# Altium schematic symbol library kmilo17pet-TI_MSP430.SchLib: 1463 symbols (part 114 of 130)
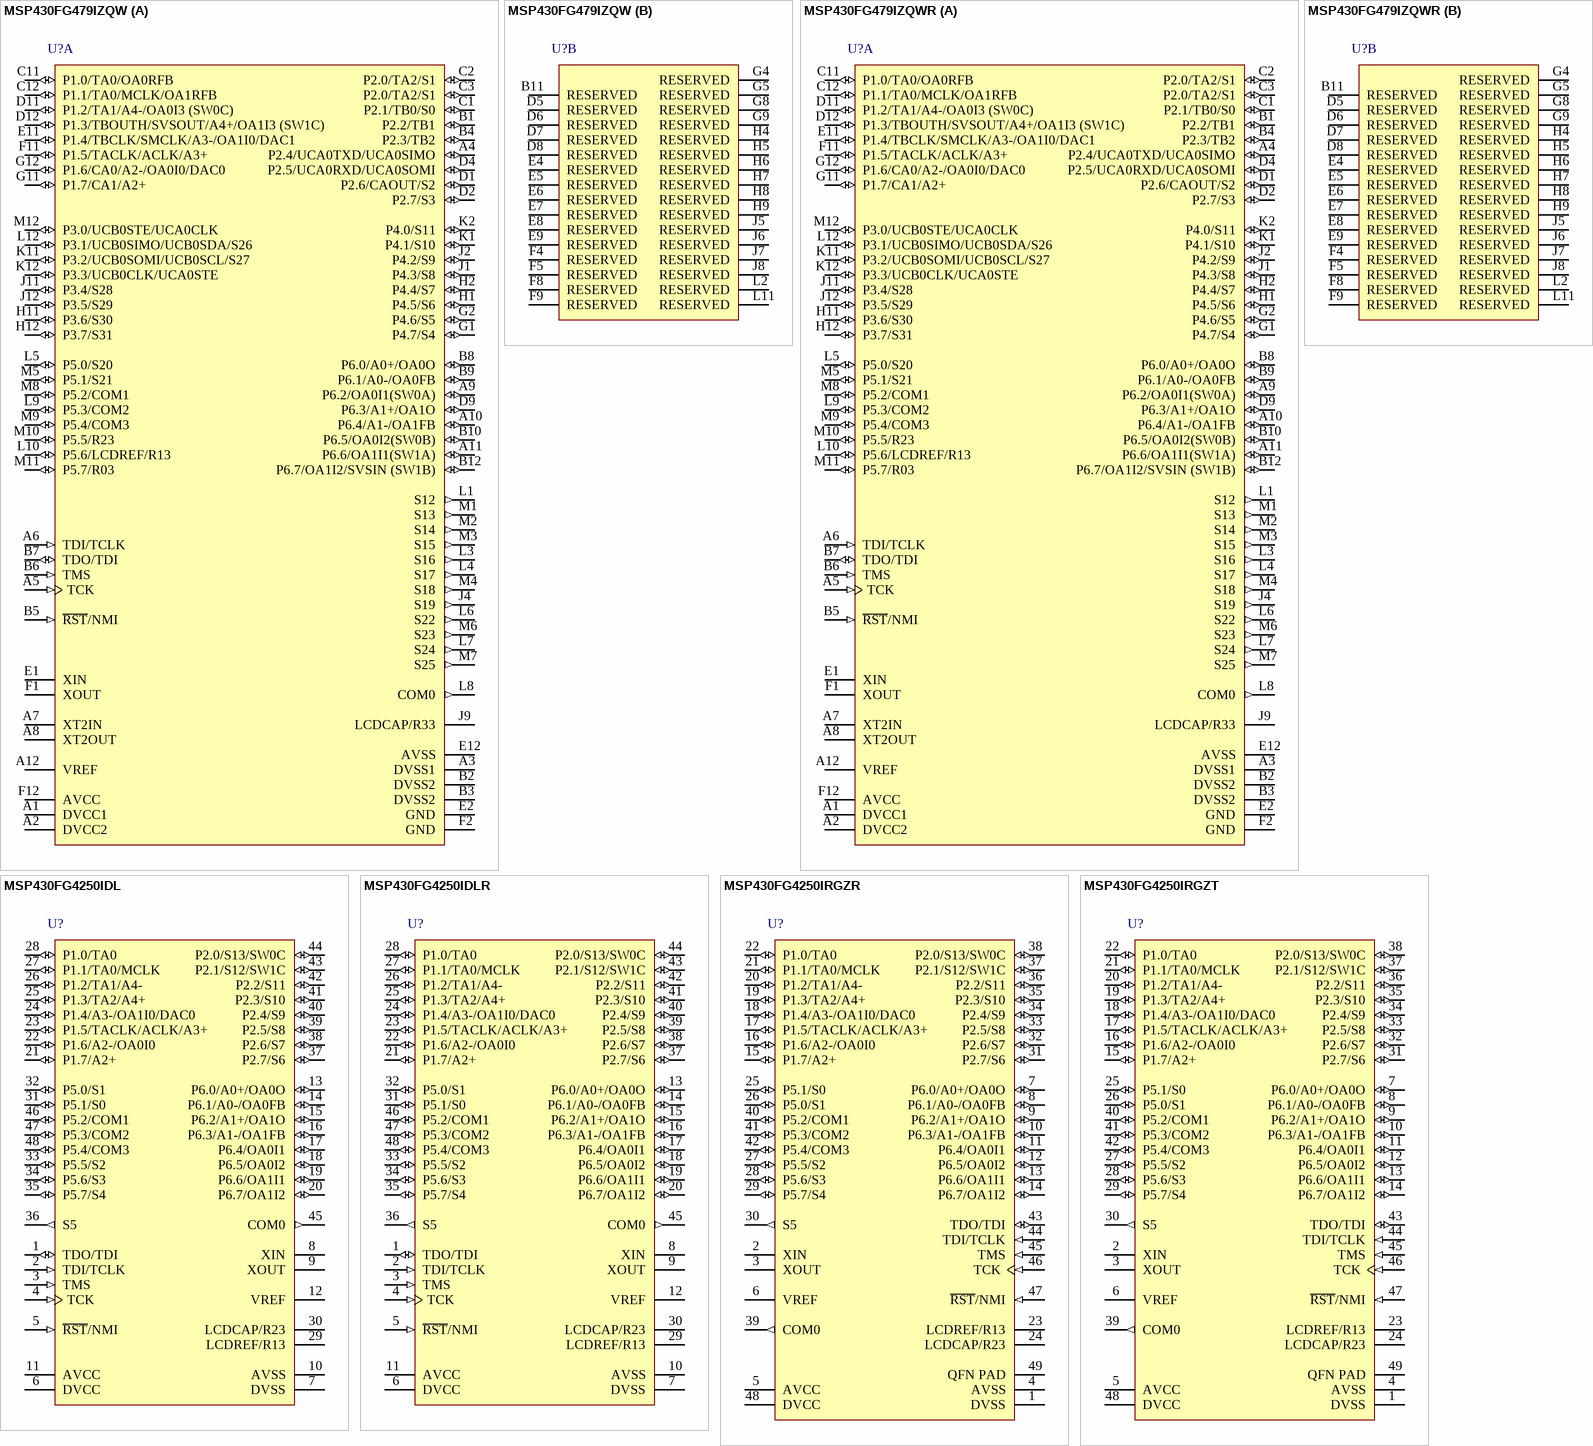
[diagram p392: symbols MSP430FG479IZQW to MSP430FG4250IRGZT]

## MSP430FG4250IRGZT
designator U?
8 MHz Mixed Signal Microcontroller with 16 KB Flash, 256 B SRAM and 32 GPIOs, -40 to 85 degC, 48-pin QFN (RGZ), Green (RoHS & no Sb/Br); Manufacturer: Texas Instruments; PartNumber: MSP430FG4250IRGZT; ADC: 16-bit Sigma Delta; DAC: 1; Flash(KB): 16; Frequency(MHz): 8; GPIO: 32; LCD Segments: 56; SRAM(B): 256; SubFamily: 4 Series with LCD; Temp Sensor: Yes; DatasheetVersion: SLAS556A; PackageVersion: 4204101/F; PackageReference: RGZ48-5150X5150TP; PackageDescription: 48-Pin Plastic Flat Pack, Body 7 x 7 mm, Pitch 0.5 mm; Supplier 1: Digi-Key; Supplier Part Number 1: 296-22057-2-ND; Supplier 2: Digi-Key; Supplier Part Number 2: 296-22057-1-ND; Supplier 3: Newark; Supplier Part Number 3: 54M7243; Supplier 4: Mouser; Supplier Part Number 4: 595-430FG4250IRGZR; Eco-Plan: Green (RoHS & no Sb/Br); Mounting Technology: Surface Mount; Code_JEDEC: MO-220; ComponentLink1Description: Manufacturer URL; ComponentLink1URL: http://www.ti.com/; ComponentLink2Description: Datasheet; ComponentLink2URL: http://www.ti.com/general/docs/lit/getliterature.tsp?genericPartNumber=MSP430FG4250&fileType=pdf; ComponentLink3Description: Package Specification; ComponentLink3URL: http://www.ti.com/lit/ml/mpqf123e/mpqf123e.pdf
footprint TI-RGZ48-5150X5150TP_N (QFN, 48-Leads, Body 7x7mm, Pitch 0.5mm, Thermal Pad 5.15X5.15mm, IPC Medium Density)
pins: 1 DVSS (power) "Digital supply voltage, negative terminal", 2 XIN "Input terminal of crystal oscillator XT1", 3 XOUT "Output terminal of crystal oscillator XT1", 4 AVSS (power) "Analog supply voltage, negative terminal", 5 AVCC (power) "Analog supply voltage, positive terminal", 6 VREF "Analog reference voltage", 7 P6.0/A0+/OA0O (io), 8 P6.1/A0-/OA0FB (io), 9 P6.2/A1+/OA1O (io), 10 P6.3/A1-/OA1FB (io), 11 P6.4/OA0I1 (io), 12 P6.5/OA0I2 (io), 13 P6.6/OA1I1 (io), 14 P6.7/OA1I2 (io), 15 P1.7/A2+ (io), 16 P1.6/A2-/OA0I0 (io), 17 P1.5/TACLK/ACLK/A3+ (io), 18 P1.4/A3-/OA1I0/DAC0 (io), 19 P1.3/TA2/A4+ (io), 20 P1.2/TA1/A4- (io), 21 P1.1/TA0/MCLK (io), 22 P1.0/TA0 (io), 23 LCDREF/R13, 24 LCDCAP/R23, 25 P5.1/S0 (io), 26 P5.0/S1 (io), 27 P5.5/S2 (io), 28 P5.6/S3 (io), 29 P5.7/S4 (io), 30 S5 (out) "LCD segment output 5", 31 P2.7/S6 (io), 32 P2.6/S7 (io), 33 P2.5/S8 (io), 34 P2.4/S9 (io), 35 P2.3/S10 (io), 36 P2.2/S11 (io), 37 P2.1/S12/SW1C (io), 38 P2.0/S13/SW0C (io), 39 COM0 (out) "Common output. COM0-COM3 are used for LCD backplanes.", 40 P5.2/COM1 (io), 41 P5.3/COM2 (io), 42 P5.4/COM3 (io), 43 TDO/TDI (io), 44 TDI/TCLK (in), 45 TMS (in) "Test mode select. TMS is used as an input port for device programming and test.", 46 TCK (in) "Test clock. TCK is the clock input port for device programming and test.", 47 ~{RST}/NMI (in), 48 DVCC (power) "Digital supply voltage, positive terminal", 49 QFN PAD (power) "QFN package pad connection to DVSS is recommended."

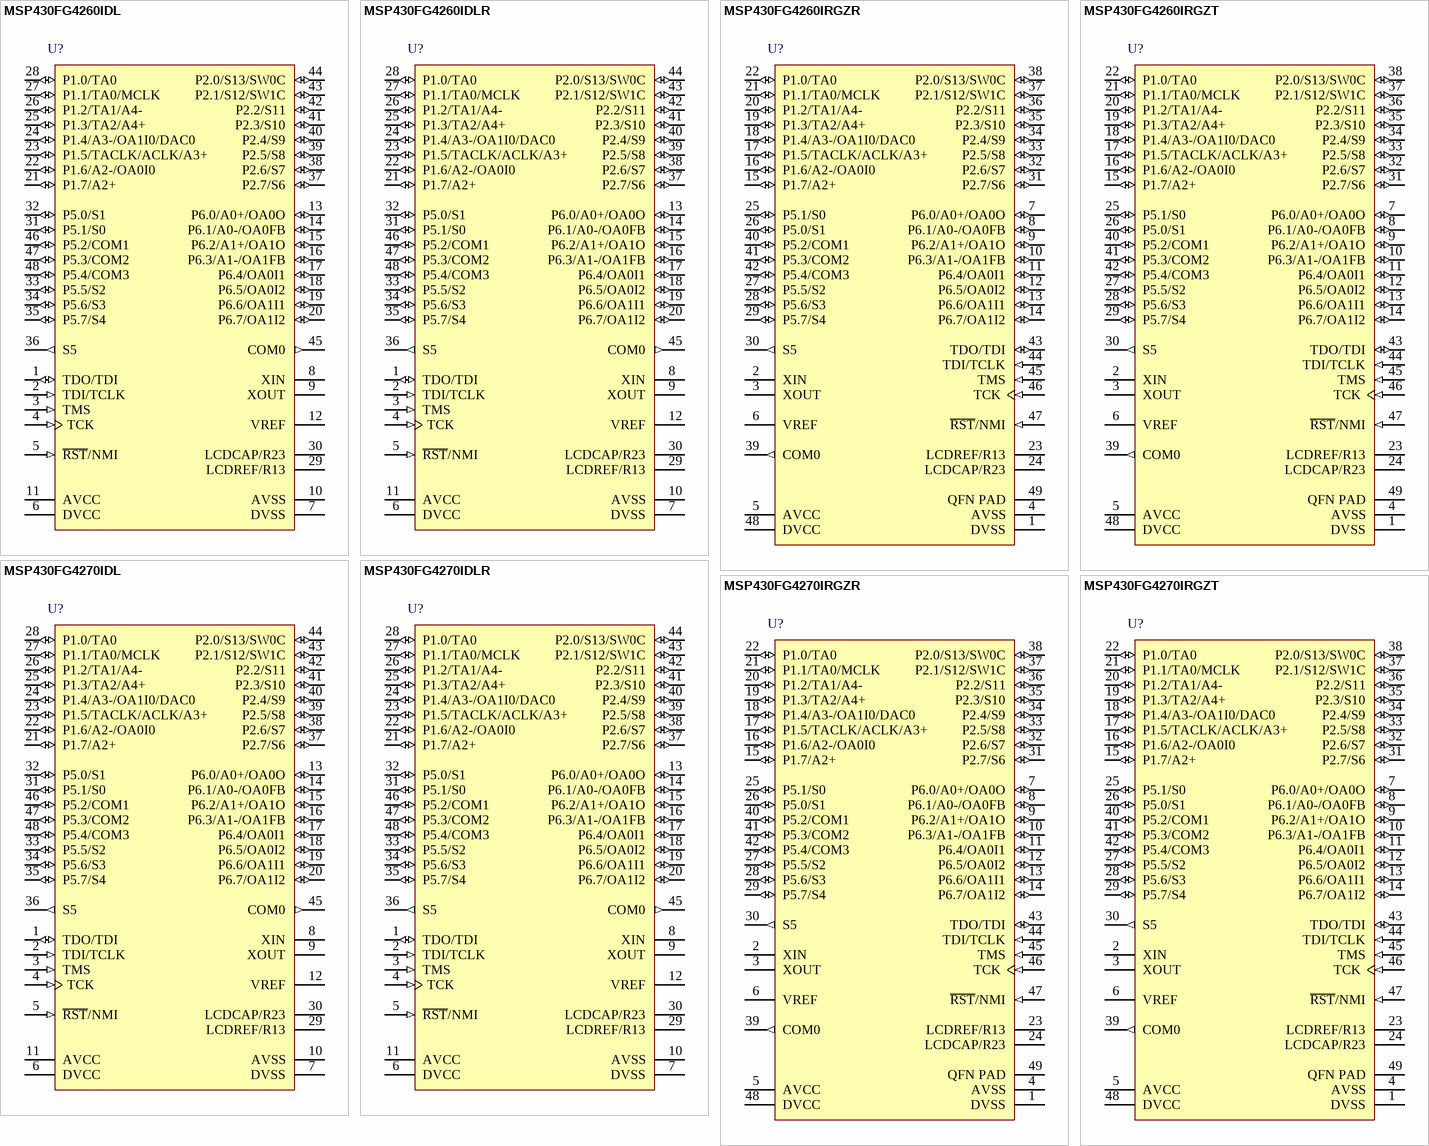
[diagram p192: symbols MSP430FG4260IDL to MSP430FG4270IRGZT]

## MSP430FG4260IDL
designator U?
8 MHz Mixed Signal Microcontroller with 24 KB Flash, 256 B SRAM and 32 GPIOs, -40 to 85 degC, 48-pin SOP (DL), Green (RoHS & no Sb/Br); Manufacturer: Texas Instruments; PartNumber: MSP430FG4260IDL; ADC: 16-bit Sigma Delta; DAC: 1; Flash(KB): 24; Frequency(MHz): 8; GPIO: 32; LCD Segments: 56; SRAM(B): 256; SubFamily: 4 Series with LCD; Temp Sensor: Yes; DatasheetVersion: SLAS556A; PackageVersion: 4040048/E; PackageReference: DL48; PackageDescription: 48-Pin Plastic Small Outline, Body 7.49 x 15.88 mm, Pitch 0.635 mm; Supplier 1: Digi-Key; Supplier Part Number 1: MSP430FG4250IRGZT-ND; Supplier 2: Mouser; Supplier Part Number 2: 595-430FG4250IRGZT; Eco-Plan: Green (RoHS & no Sb/Br); Mounting Technology: Surface Mount; Code_JEDEC: MO-118; ComponentLink1Description: Manufacturer URL; ComponentLink1URL: http://www.ti.com/; ComponentLink2Description: Datasheet; ComponentLink2URL: http://www.ti.com/general/docs/lit/getliterature.tsp?genericPartNumber=MSP430FG4260&fileType=pdf; ComponentLink3Description: Package Specification; ComponentLink3URL: http://www.ti.com/lit/ml/msso001c/msso001c.pdf
footprint TI-DL48_N (SOP, 48-Leads, Body 15.88x7.49mm, Pitch 0.635mm, IPC Medium Density)
pins: 1 TDO/TDI (io), 2 TDI/TCLK (in), 3 TMS (in) "Test mode select. TMS is used as an input port for device programming and test.", 4 TCK (in) "Test clock. TCK is the clock input port for device programming and test.", 5 ~{RST}/NMI (in), 6 DVCC (power) "Digital supply voltage, positive terminal", 7 DVSS (power) "Digital supply voltage, negative terminal", 8 XIN "Input terminal of crystal oscillator XT1", 9 XOUT "Output terminal of crystal oscillator XT1", 10 AVSS (power) "Analog supply voltage, negative terminal", 11 AVCC (power) "Analog supply voltage, positive terminal", 12 VREF "Analog reference voltage", 13 P6.0/A0+/OA0O (io), 14 P6.1/A0-/OA0FB (io), 15 P6.2/A1+/OA1O (io), 16 P6.3/A1-/OA1FB (io), 17 P6.4/OA0I1 (io), 18 P6.5/OA0I2 (io), 19 P6.6/OA1I1 (io), 20 P6.7/OA1I2 (io), 21 P1.7/A2+ (io), 22 P1.6/A2-/OA0I0 (io), 23 P1.5/TACLK/ACLK/A3+ (io), 24 P1.4/A3-/OA1I0/DAC0 (io), 25 P1.3/TA2/A4+ (io), 26 P1.2/TA1/A4- (io), 27 P1.1/TA0/MCLK (io), 28 P1.0/TA0 (io), 29 LCDREF/R13, 30 LCDCAP/R23, 31 P5.1/S0 (io), 32 P5.0/S1 (io), 33 P5.5/S2 (io), 34 P5.6/S3 (io), 35 P5.7/S4 (io), 36 S5 (out) "LCD segment output 5", 37 P2.7/S6 (io), 38 P2.6/S7 (io), 39 P2.5/S8 (io), 40 P2.4/S9 (io), 41 P2.3/S10 (io), 42 P2.2/S11 (io), 43 P2.1/S12/SW1C (io), 44 P2.0/S13/SW0C (io), 45 COM0 (out) "Common output, COM0-3 are used for LCD backplanes.", 46 P5.2/COM1 (io), 47 P5.3/COM2 (io), 48 P5.4/COM3 (io)

## MSP430FG4260IDLR
designator U?
8 MHz Mixed Signal Microcontroller with 24 KB Flash, 256 B SRAM and 32 GPIOs, -40 to 85 degC, 48-pin SOP (DL), Green (RoHS & no Sb/Br); Manufacturer: Texas Instruments; PartNumber: MSP430FG4260IDLR; ADC: 16-bit Sigma Delta; DAC: 1; Flash(KB): 24; Frequency(MHz): 8; GPIO: 32; LCD Segments: 56; SRAM(B): 256; SubFamily: 4 Series with LCD; Temp Sensor: Yes; DatasheetVersion: SLAS556A; PackageVersion: 4040048/E; PackageReference: DL48; PackageDescription: 48-Pin Plastic Small Outline, Body 7.49 x 15.88 mm, Pitch 0.635 mm; Supplier 1: Digi-Key; Supplier Part Number 1: 296-33441-5-ND; Supplier 2: Mouser; Supplier Part Number 2: 595-MSP430FG4260IDL; Eco-Plan: Green (RoHS & no Sb/Br); Mounting Technology: Surface Mount; Code_JEDEC: MO-118; ComponentLink1Description: Manufacturer URL; ComponentLink1URL: http://www.ti.com/; ComponentLink2Description: Datasheet; ComponentLink2URL: http://www.ti.com/general/docs/lit/getliterature.tsp?genericPartNumber=MSP430FG4260&fileType=pdf; ComponentLink3Description: Package Specification; ComponentLink3URL: http://www.ti.com/lit/ml/msso001c/msso001c.pdf
footprint TI-DL48_N (SOP, 48-Leads, Body 15.88x7.49mm, Pitch 0.635mm, IPC Medium Density)
pins: 1 TDO/TDI (io), 2 TDI/TCLK (in), 3 TMS (in) "Test mode select. TMS is used as an input port for device programming and test.", 4 TCK (in) "Test clock. TCK is the clock input port for device programming and test.", 5 ~{RST}/NMI (in), 6 DVCC (power) "Digital supply voltage, positive terminal", 7 DVSS (power) "Digital supply voltage, negative terminal", 8 XIN "Input terminal of crystal oscillator XT1", 9 XOUT "Output terminal of crystal oscillator XT1", 10 AVSS (power) "Analog supply voltage, negative terminal", 11 AVCC (power) "Analog supply voltage, positive terminal", 12 VREF "Analog reference voltage", 13 P6.0/A0+/OA0O (io), 14 P6.1/A0-/OA0FB (io), 15 P6.2/A1+/OA1O (io), 16 P6.3/A1-/OA1FB (io), 17 P6.4/OA0I1 (io), 18 P6.5/OA0I2 (io), 19 P6.6/OA1I1 (io), 20 P6.7/OA1I2 (io), 21 P1.7/A2+ (io), 22 P1.6/A2-/OA0I0 (io), 23 P1.5/TACLK/ACLK/A3+ (io), 24 P1.4/A3-/OA1I0/DAC0 (io), 25 P1.3/TA2/A4+ (io), 26 P1.2/TA1/A4- (io), 27 P1.1/TA0/MCLK (io), 28 P1.0/TA0 (io), 29 LCDREF/R13, 30 LCDCAP/R23, 31 P5.1/S0 (io), 32 P5.0/S1 (io), 33 P5.5/S2 (io), 34 P5.6/S3 (io), 35 P5.7/S4 (io), 36 S5 (out) "LCD segment output 5", 37 P2.7/S6 (io), 38 P2.6/S7 (io), 39 P2.5/S8 (io), 40 P2.4/S9 (io), 41 P2.3/S10 (io), 42 P2.2/S11 (io), 43 P2.1/S12/SW1C (io), 44 P2.0/S13/SW0C (io), 45 COM0 (out) "Common output, COM0-3 are used for LCD backplanes.", 46 P5.2/COM1 (io), 47 P5.3/COM2 (io), 48 P5.4/COM3 (io)

## MSP430FG4260IRGZR
designator U?
8 MHz Mixed Signal Microcontroller with 24 KB Flash, 256 B SRAM and 32 GPIOs, -40 to 85 degC, 48-pin QFN (RGZ), Green (RoHS & no Sb/Br); Manufacturer: Texas Instruments; PartNumber: MSP430FG4260IRGZR; ADC: 16-bit Sigma Delta; DAC: 1; Flash(KB): 24; Frequency(MHz): 8; GPIO: 32; LCD Segments: 56; SRAM(B): 256; SubFamily: 4 Series with LCD; Temp Sensor: Yes; DatasheetVersion: SLAS556A; PackageVersion: 4204101/F; PackageReference: RGZ48-5150X5150TP; PackageDescription: 48-Pin Plastic Flat Pack, Body 7 x 7 mm, Pitch 0.5 mm; Supplier 1: Digi-Key; Supplier Part Number 1: 296-22058-2-ND; Supplier 2: Digi-Key; Supplier Part Number 2: 296-22058-1-ND; Supplier 3: Newark; Supplier Part Number 3: 54M7246; Supplier 4: Mouser; Supplier Part Number 4: 595-MSP430FG4260IDLR; Eco-Plan: Green (RoHS & no Sb/Br); Mounting Technology: Surface Mount; Code_JEDEC: MO-220; ComponentLink1Description: Manufacturer URL; ComponentLink1URL: http://www.ti.com/; ComponentLink2Description: Datasheet; ComponentLink2URL: http://www.ti.com/general/docs/lit/getliterature.tsp?genericPartNumber=MSP430FG4260&fileType=pdf; ComponentLink3Description: Package Specification; ComponentLink3URL: http://www.ti.com/lit/ml/mpqf123e/mpqf123e.pdf
footprint TI-RGZ48-5150X5150TP_N (QFN, 48-Leads, Body 7x7mm, Pitch 0.5mm, Thermal Pad 5.15X5.15mm, IPC Medium Density)
pins: 1 DVSS (power) "Digital supply voltage, negative terminal", 2 XIN "Input terminal of crystal oscillator XT1", 3 XOUT "Output terminal of crystal oscillator XT1", 4 AVSS (power) "Analog supply voltage, negative terminal", 5 AVCC (power) "Analog supply voltage, positive terminal", 6 VREF "Analog reference voltage", 7 P6.0/A0+/OA0O (io), 8 P6.1/A0-/OA0FB (io), 9 P6.2/A1+/OA1O (io), 10 P6.3/A1-/OA1FB (io), 11 P6.4/OA0I1 (io), 12 P6.5/OA0I2 (io), 13 P6.6/OA1I1 (io), 14 P6.7/OA1I2 (io), 15 P1.7/A2+ (io), 16 P1.6/A2-/OA0I0 (io), 17 P1.5/TACLK/ACLK/A3+ (io), 18 P1.4/A3-/OA1I0/DAC0 (io), 19 P1.3/TA2/A4+ (io), 20 P1.2/TA1/A4- (io), 21 P1.1/TA0/MCLK (io), 22 P1.0/TA0 (io), 23 LCDREF/R13, 24 LCDCAP/R23, 25 P5.1/S0 (io), 26 P5.0/S1 (io), 27 P5.5/S2 (io), 28 P5.6/S3 (io), 29 P5.7/S4 (io), 30 S5 (out) "LCD segment output 5", 31 P2.7/S6 (io), 32 P2.6/S7 (io), 33 P2.5/S8 (io), 34 P2.4/S9 (io), 35 P2.3/S10 (io), 36 P2.2/S11 (io), 37 P2.1/S12/SW1C (io), 38 P2.0/S13/SW0C (io), 39 COM0 (out) "Common output. COM0-COM3 are used for LCD backplanes.", 40 P5.2/COM1 (io), 41 P5.3/COM2 (io), 42 P5.4/COM3 (io), 43 TDO/TDI (io), 44 TDI/TCLK (in), 45 TMS (in) "Test mode select. TMS is used as an input port for device programming and test.", 46 TCK (in) "Test clock. TCK is the clock input port for device programming and test.", 47 ~{RST}/NMI (in), 48 DVCC (power) "Digital supply voltage, positive terminal", 49 QFN PAD (power) "QFN package pad connection to DVSS is recommended."